# EAGLE library part TLV3501 (library texas-instruments)
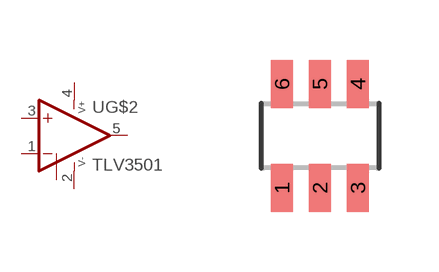
[diagram p26: symbol with the pads of SOT23-6; footprint SOT23-6]

Designator prefix U; gates G$1=PWR+- G$2=OC G$3=SHDN

## TLV3501 (DIGIKEY: 296-35977-1-ND)  [SOT23-6]
1  G$2:-IN  in
2  G$1:V-  pwr
3  G$2:+IN  in
4  G$1:V+  pwr
5  G$2:OUT  oc
6  G$3:SHDN

## Footprint SOT23-6 (pad centres in mm)
SOT-23 - DBV 0.95 mm pitch
smd 0.55 x 1.2: 1 -0.95,-1.3; 2 0,-1.3; 3 0.95,-1.3; 4 0.95,1.3; 5 0,1.3; 6 -0.95,1.3